# Altium integrated library TI_Logic_Backplane_Logic.IntLib: 5 symbols
Pins are listed as number, name and electrical type; pins without a type are passive.

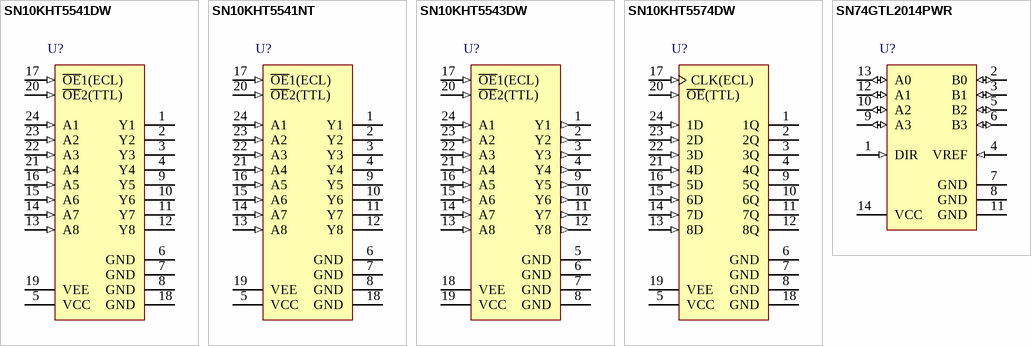
[diagram p0: symbols SN10KHT5541DW to SN74GTL2014PWR]

## SN10KHT5541DW
designator U?
Octal ECL-to-TTL Translator With 3-State Outputs, DW0024A, TUBE; Generic Part Number: SN10KHT5541; Manufacturer: Texas Instruments; PartNumber: SN10KHT5541DW; Output Type: CMOS; ICC @ Nom Voltage(Max)(mA): 120; Input Type: TTL; F @ Nom Voltage(Max)(Mhz): 1; Rating: Catalog; Voltage(Nom)(V): 5; Schmitt Trigger: No; tpd @ Nom Voltage(Max)(ns): 6.2; DatasheetVersion: SDZS003A; PackageReference: DW0024A; Supplier 1: Mouser; Supplier Part Number 1: 595-SN10KHT5541DW; Supplier 2: Digi-Key; Supplier Part Number 2: 296-9688-5-ND; Operating Temperature Range(C): 0 to 70; ComponentLink1Description: Manufacturer URL; ComponentLink1URL: http://www.ti.com/; ComponentLink2Description: Datasheet; ComponentLink2URL: http://www.ti.com/lit/ds/symlink/sn10kht5541.pdf
footprint DW0024A_N (SOIC, 24-Leads, Body 15.6x7.6mm, Pitch 1.27mm, IPC Medium Density)
footprint DW0024A_M (SOIC, 24-Leads, Body 15.6x7.6mm, Pitch 1.27mm, IPC Low Density)
footprint DW0024A_L (SOIC, 24-Leads, Body 15.6x7.6mm, Pitch 1.27mm, IPC High Density)
pins: 1 Y1 (hiz), 2 Y2 (hiz), 3 Y3 (hiz), 4 Y4 (hiz), 5 VCC (power), 6 GND (power), 7 GND (power), 8 GND (power), 9 Y5 (hiz), 10 Y6 (hiz), 11 Y7 (hiz), 12 Y8 (hiz), 13 A8 (in), 14 A7 (in), 15 A6 (in), 16 A5 (in), 17 ~{OE}1(ECL) (in), 18 GND (power), 19 VEE (power), 20 ~{OE}2(TTL) (in), 21 A4 (in), 22 A3 (in), 23 A2 (in), 24 A1 (in)

## SN10KHT5541NT
designator U?
Octal ECL-to-TTL Translator With 3-State Outputs, NT0024A, TUBE; Generic Part Number: SN10KHT5541; Manufacturer: Texas Instruments; PartNumber: SN10KHT5541NT; Output Type: CMOS; ICC @ Nom Voltage(Max)(mA): 120; Input Type: TTL; F @ Nom Voltage(Max)(Mhz): 1; Rating: Catalog; Voltage(Nom)(V): 5; Schmitt Trigger: No; tpd @ Nom Voltage(Max)(ns): 6.2; DatasheetVersion: SDZS003A; PackageReference: NT0024A; Supplier 1: Mouser; Supplier Part Number 1: 595-SN10KHT5541NT; Supplier 2: Digi-Key; Supplier Part Number 2: 296-9689-5-ND; Operating Temperature Range(C): 0 to 70; ComponentLink1Description: Manufacturer URL; ComponentLink1URL: http://www.ti.com/; ComponentLink2Description: Datasheet; ComponentLink2URL: http://www.ti.com/lit/ds/symlink/sn10kht5541.pdf
footprint NT0024A (DIP, 24-Leads, Body 32.05x7.1mm, Pitch 2.54mm)
pins: 1 Y1 (hiz), 2 Y2 (hiz), 3 Y3 (hiz), 4 Y4 (hiz), 5 VCC (power), 6 GND (power), 7 GND (power), 8 GND (power), 9 Y5 (hiz), 10 Y6 (hiz), 11 Y7 (hiz), 12 Y8 (hiz), 13 A8 (in), 14 A7 (in), 15 A6 (in), 16 A5 (in), 17 ~{OE}1(ECL) (in), 18 GND (power), 19 VEE (power), 20 ~{OE}2(TTL) (in), 21 A4 (in), 22 A3 (in), 23 A2 (in), 24 A1 (in)

## SN10KHT5543DW
designator U?
Octal TTL-to-ECL Translators With Output Enable, DW0024A, TUBE; Generic Part Number: SN10KHT5543; Manufacturer: Texas Instruments; PartNumber: SN10KHT5543DW; ICC @ Nom Voltage(Max)(mA): 25; Rating: Catalog; Voltage(Nom)(V): 5; Schmitt Trigger: No; tpd @ Nom Voltage(Max)(ns): 3.7; DatasheetVersion: SDZS001A; PackageReference: DW0024A; Supplier 1: Mouser; Supplier Part Number 1: 595-SN10KHT5543DW; Supplier 2: Digi-Key; Supplier Part Number 2: 296-11852-5-ND; Operating Temperature Range(C): 0 to 70; ComponentLink1Description: Manufacturer URL; ComponentLink1URL: http://www.ti.com/; ComponentLink2Description: Datasheet; ComponentLink2URL: http://www.ti.com/lit/ds/symlink/sn10kht5543.pdf
footprint DW0024A_N (SOIC, 24-Leads, Body 15.6x7.6mm, Pitch 1.27mm, IPC Medium Density)
footprint DW0024A_M (SOIC, 24-Leads, Body 15.6x7.6mm, Pitch 1.27mm, IPC Low Density)
footprint DW0024A_L (SOIC, 24-Leads, Body 15.6x7.6mm, Pitch 1.27mm, IPC High Density)
pins: 1 Y1 (out), 2 Y2 (out), 3 Y3 (out), 4 Y4 (out), 5 GND (power), 6 GND (power), 7 GND (power), 8 GND (power), 9 Y5 (out), 10 Y6 (out), 11 Y7 (out), 12 Y8 (out), 13 A8 (in), 14 A7 (in), 15 A6 (in), 16 A5 (in), 17 ~{OE}1(ECL) (in), 18 VEE (power), 19 VCC (power), 20 ~{OE}2(TTL) (in), 21 A4 (in), 22 A3 (in), 23 A2 (in), 24 A1 (in)

## SN10KHT5574DW
designator U?
Octal ECL-to-TTL Translator With D-Type Edge-Triggered Flip-Flops and 3-State Outputs, DW0024A, TUBE; Generic Part Number: SN10KHT5574; Manufacturer: Texas Instruments; PartNumber: SN10KHT5574DW; ICC @ Nom Voltage(Max)(mA): 100; Rating: Catalog; Voltage(Nom)(V): 5; Schmitt Trigger: No; tpd @ Nom Voltage(Max)(ns): 7.4; DatasheetVersion: SDZS010; PackageReference: DW0024A; Supplier 1: Mouser; Supplier Part Number 1: 595-SN10KHT5574DW; Supplier 2: Digi-Key; Supplier Part Number 2: SN10KHT5574DW-ND; Operating Temperature Range(C): 0 to 70; ComponentLink1Description: Manufacturer URL; ComponentLink1URL: http://www.ti.com/; ComponentLink2Description: Datasheet; ComponentLink2URL: http://www.ti.com/lit/ds/symlink/sn10kht5574.pdf
footprint DW0024A_N (SOIC, 24-Leads, Body 15.6x7.6mm, Pitch 1.27mm, IPC Medium Density)
footprint DW0024A_M (SOIC, 24-Leads, Body 15.6x7.6mm, Pitch 1.27mm, IPC Low Density)
footprint DW0024A_L (SOIC, 24-Leads, Body 15.6x7.6mm, Pitch 1.27mm, IPC High Density)
pins: 1 1Q (hiz), 2 2Q (hiz), 3 3Q (hiz), 4 4Q (hiz), 5 VCC (power), 6 GND (power), 7 GND (power), 8 GND (power), 9 5Q (hiz), 10 6Q (hiz), 11 7Q (hiz), 12 8Q (hiz), 13 8D (in), 14 7D (in), 15 6D (in), 16 5D (in), 17 CLK(ECL) (in), 18 GND (power), 19 VEE (power), 20 ~{OE}(TTL) (in), 21 4D (in), 22 3D (in), 23 2D (in), 24 1D (in)

## SN74GTL2014PWR
designator U?
4-bits LVTTL to GTL Transceiver, PW0014A, LARGE T&R; Generic Part Number: SN74GTL2014; Manufacturer: Texas Instruments; PartNumber: SN74GTL2014PWR; VCC(Min)(V): 3; VCC(Max)(V): 3.6; Output Type: GTL-/GTL/GTL+/LVTTL; ICC @ Nom Voltage(Max)(mA): 10; Bits(#): 4; F @ Nom Voltage(Max)(Mhz): 150; Rating: Catalog; Voltage(Nom)(V): 3.3; Schmitt Trigger: No; Output Drive (IOL/IOH)(Max)(mA): 50; tpd @ Nom Voltage(Max)(ns): 7; DatasheetVersion: SCLS746A; PackageReference: PW0014A; Supplier 1: Mouser; Supplier Part Number 1: 595-SN74GTL2014PWR; Supplier 2: Digi-Key; Supplier Part Number 2: 296-39198-2-ND; Supplier 3: Digi-Key; Supplier Part Number 3: 296-39198-1-ND; Supplier 4: Digi-Key; Supplier Part Number 4: 296-39198-6-ND; Input Type: GTL-/GTL/GTL+/LVTTL; Operating Temperature Range(C): -40 to 85; Technology Family: GTL; ComponentLink1Description: Manufacturer URL; ComponentLink1URL: http://www.ti.com/; ComponentLink2Description: Datasheet; ComponentLink2URL: http://www.ti.com/lit/ds/symlink/sn74gtl2014.pdf
footprint PW0014A_N (SOP, 14-Leads, Body 5.1x4.5mm, Pitch 0.65mm, IPC Medium Density)
footprint PW0014A_M (SOP, 14-Leads, Body 5.1x4.5mm, Pitch 0.65mm, IPC Low Density)
footprint PW0014A_L (SOP, 14-Leads, Body 5.1x4.5mm, Pitch 0.65mm, IPC High Density)
pins: 1 DIR (in) "Direction control input (LVTTL)", 2 B0 (io) "GTL data input/output", 3 B1 (io) "GTL data input/output", 4 VREF (in) "GTL reference voltage", 5 B2 (io) "GTL data input/output", 6 B3 (io) "GTL data input/output", 7 GND (power) "Ground", 8 GND (power) "Ground", 9 A3 (io) "LVTTL data input/output", 10 A2 (io) "LVTTL data input/output", 11 GND (power) "Ground", 12 A1 (io) "LVTTL data input/output", 13 A0 (io) "LVTTL data input/output", 14 VCC (power) "Supply voltage"